# EAGLE library part 74LV4051BQ,115 (library pimoroni-ics)
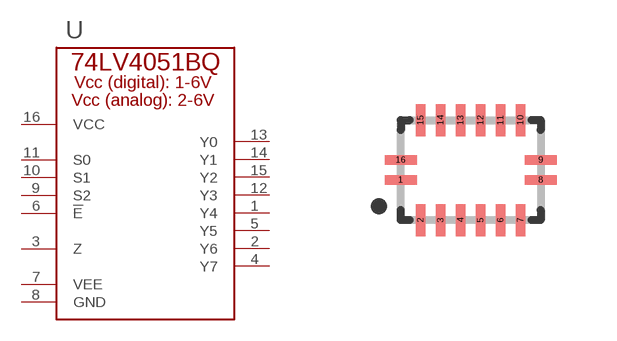
[diagram p152: symbol with the pads of DHVQFN16_SOT763-1_NO_PAD; footprint DHVQFN16_SOT763-1_NO_PAD]

Designator prefix U

## 74LV4051BQ,115  [DHVQFN16_SOT763-1_NO_PAD]
1  Y4
2  Y6
3  Z
4  Y7
5  Y5
6  !E
7  VEE
8  GND
9  S2
10  S1
11  S0
12  Y3
13  Y0
14  Y1
15  Y2
16  VCC

## Footprint DHVQFN16_SOT763-1_NO_PAD (pad centres in mm)
smd 0.8 x 0.23: 1 -1.75,-0.25; 8 1.75,-0.25; 9 1.75,0.25; 16 -1.75,0.25
smd 0.23 x 0.8: 2 -1.25,-1.25; 3 -0.75,-1.25; 4 -0.25,-1.25; 5 0.25,-1.25; 6 0.75,-1.25; 7 1.25,-1.25; 10 1.25,1.25; 11 0.75,1.25; 12 0.25,1.25; 13 -0.25,1.25; 14 -0.75,1.25; 15 -1.25,1.25